# EAGLE library part LTC4065L (library LTC4065L)
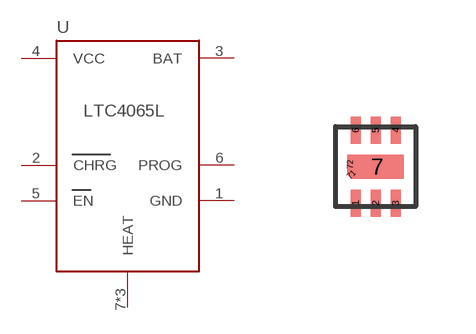
[diagram p0: symbol with the pads of LTC4065L; footprint LTC4065L]

Designator prefix -

## LTC4065L  [LTC4065L]
1  GND
2  CHRG
3  BAT
4  VCC
5  EN
6  PROG
7  HEAT
71  HEAT
72  HEAT

## Footprint LTC4065L (pad centres in mm)
smd 0.25 x 0.675: 1 -0.5,-0.912; 2 0,-0.912; 3 0.5,-0.912; 4 0.5,0.912; 5 0,0.912; 6 -0.5,0.912
smd 1.32 x 0.6: 7 0.05,0
smd 0.141 x 0.141 rotated 45: 71 -0.61,-0.2
smd 0.14 x 0.5: 72 -0.64,0.05